# EAGLE library part 418127270907 (library Wurth_Switch_WS-DITV)
WS-DITV Small Compact THT with Raised Actuator 2.54 mm Mechanical Properties Operation Force:600 g Electrical Life:2000 Cycles Actuator Type:Raise Type Switch Position:Off Properties IR:25 mA VR:24 V (DC) IR:100 mA VR:50 V (DC) Contact Resistance Initial:50 mΩ Contact Resistance After Life Test:100 mΩ RISO:100 MΩ Withstanding Voltage:500 V (AC) Actuator Type:Raise Type Switch Position:Off Material Properties Cover Material:PA9T Cover Flammability Rating:UL94 V-0 Cover Color:Black Base Material:PA9T Base Flammability Rating:UL94 V-0 Base Color:Black Actuator Material:PA66 Actuator Flammability Rating:UL94 V-0 Actuator Color:White Contact Material:Copper Alloy Contact Plating:Gold Terminal Material:Copper Alloy Terminal Plating:Gold General Information Operating Temperature:-40 up to +85 °C Packaging Properties Packaging:Tube <https://www.we-online.com/catalog/media/o77465v209%20Family_WS-DITV_THT_RAISED_ACTUATOR_4181272709xx_4C.jpg> Details see: https://www.we-online.com/catalog/en/DITV_2_54_SMALL_COMPACT_THT_WITH_RAISED_ACTUATOR/ Updated by Yingchun, Shan 2020-01-22 2020 (C) Würth Elektronik
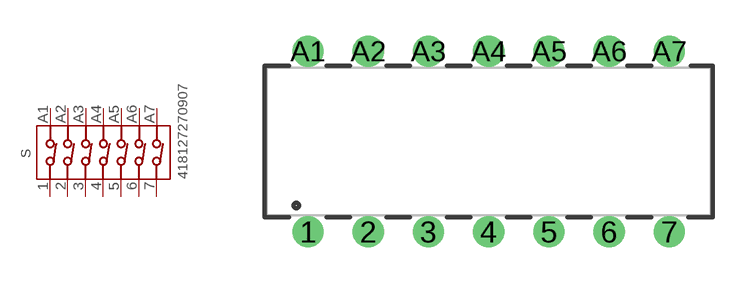
[diagram p9: symbol with the pads of 418127270907; footprint 418127270907]

Designator prefix S

## 418127270907 (DATASHEET-URL: https://www.we-online.com/catalog/datasheet/418127270907.pdf; PART-NUMBER: 418127270907; PINS: 7; QTY: 27; VALUE: 418127270907)  [418127270907]
1  1  pas
2  2  pas
3  3  pas
4  4  pas
5  5  pas
6  6  pas
7  7  pas
A1  A1  pas
A2  A2  pas
A3  A3  pas
A4  A4  pas
A5  A5  pas
A6  A6  pas
A7  A7  pas

## Footprint 418127270907 (pad centres in mm)
WS-DITV Small Compact THT with Raised Actuator 2.54 mm ,7Poles
drill 0.8: 1 -7.62,-3.81; 2 -5.08,-3.81; 3 -2.54,-3.81; 4 0,-3.81; 5 2.54,-3.81; 6 5.08,-3.81; 7 7.62,-3.81; A1 -7.62,3.81; A2 -5.08,3.81; A3 -2.54,3.81; A4 0,3.81; A5 2.54,3.81; A6 5.08,3.81; A7 7.62,3.81